# EAGLE library part 62502622021 (library Wuerth_Elektronik_eiCan_Box_Header_&_IDC_Connectors_v1.2)
WR-BHD 2.00mm Male Box Header With Lever, 26 pins
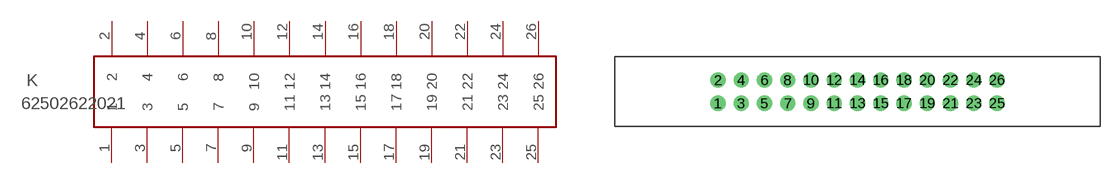
[diagram p13: symbol with the pads of 62502622021; footprint 62502622021]

Designator prefix K

## 62502622021  [62502622021]
1  1  pas
2  2  pas
3  3  pas
4  4  pas
5  5  pas
6  6  pas
7  7  pas
8  8  pas
9  9  pas
10  10  pas
11  11  pas
12  12  pas
13  13  pas
14  14  pas
15  15  pas
16  16  pas
17  17  pas
18  18  pas
19  19  pas
20  20  pas
21  21  pas
22  22  pas
23  23  pas
24  24  pas
25  25  pas
26  26  pas

## Footprint 62502622021 (pad centres in mm)
WR-BHD-2.00mm Male Box Header With Lever,26 pins
drill 0.8 round: 1 -9.81,-1; 2 -9.81,1; 3 -7.81,-1; 4 -7.81,1; 5 -5.81,-1; 6 -5.81,1; 7 -3.81,-1; 8 -3.81,1; 9 -1.81,-1; 10 -1.81,1; 11 0.19,-1; 12 0.19,1; 13 2.19,-1; 14 2.19,1; 15 4.19,-1; 16 4.19,1; 17 6.19,-1; 18 6.19,1; 19 8.19,-1; 20 8.19,1; 21 10.19,-1; 22 10.19,1; 23 12.19,-1; 24 12.19,1; 25 14.19,-1; 26 14.19,1